# EAGLE library part ULN2003ADR (library ULN2003ADR)
8-BIT SHIFT REGISTERS WITH 3-STATE OUTPUT REGISTERS
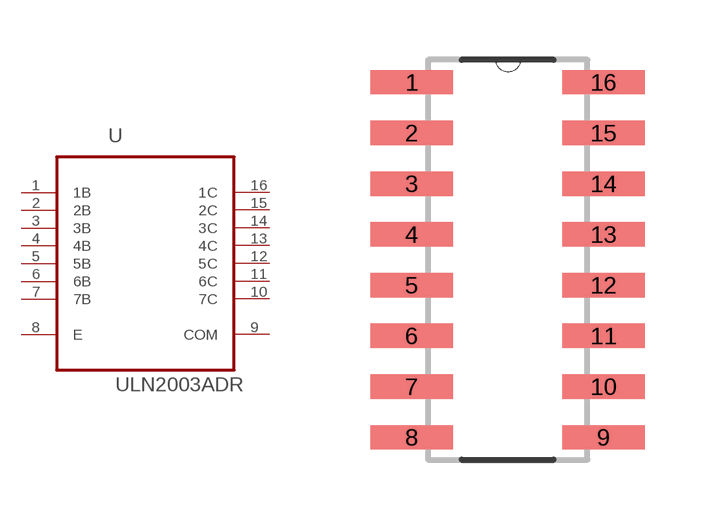
[diagram p0: symbol with the pads of SOIC127P600X175-16N; footprint SOIC127P600X175-16N]

Designator prefix U

## ULN2003ADR (Description: Bipolar _BJT_ Transistor Array 7 NPN Darlington 50V 500mA Surface Mount 16-SOIC; Digi-Key_Part_Number: 296-1368-1-ND; Digi-Key_Purchase_URL: https://www.digikey.nl/product-detail/en/texas-instruments/ULN2003ADR/296-1368-1-ND/404968?utm_source=snapeda&utm_medium=aggregator&utm_campaign=symbol; MF: Texas Instruments; MP: ULN2003ADR; Package: SOIC-16 STMicroelectronics)  [SOIC127P600X175-16N]
1  1B  in
2  2B  in
3  3B  in
4  4B  in
5  5B  in
6  6B  in
7  7B  in
8  E  in
9  COM  out
10  7C  out
11  6C  out
12  5C  out
13  4C  out
14  3C  out
15  2C  out
16  1C  out

## Footprint SOIC127P600X175-16N (pad centres in mm)
smd 2.057 x 0.61: 1 -4.801,8.89; 2 -4.801,7.62; 3 -4.801,6.35; 4 -4.801,5.08; 5 -4.801,3.81; 6 -4.801,2.54; 7 -4.801,1.27; 8 -4.801,0; 9 0,0; 10 0,1.27; 11 0,2.54; 12 0,3.81; 13 0,5.08; 14 0,6.35; 15 0,7.62; 16 0,8.89